# Altium schematic symbol library MAX7314AEGT.SchLib: 1 symbol
Pins are listed as number, name and electrical type; pins without a type are passive.

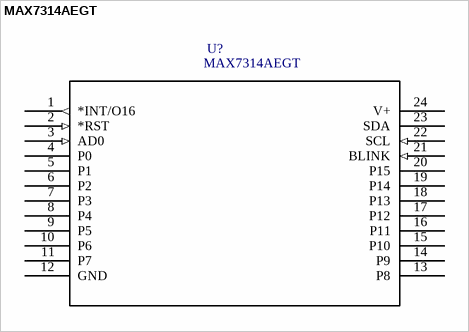
[diagram p0: symbol MAX7314AEGT]

## MAX7314AEGT
designator U?
Interface IC - I/O extensions Maxim Integrated MAX7314AEG%2B PWM I%C2%B2C 400 kHz QSOP 24; MP: MAX7314AEG+; Availability: Bad; Price: 2.82 USD; MF: Maxim Integrated; Package: QSOP-24 Maxim Integrated; Value: *
footprint 21-0055H_24
pins: 1 *INT/O16 (out), 2 *RST (in), 3 AD0 (in), 4 P0, 5 P1, 6 P2, 7 P3, 8 P4, 9 P5, 10 P6, 11 P7, 12 GND (power), 13 P8, 14 P9, 15 P10, 16 P11, 17 P12, 18 P13, 19 P14, 20 P15, 21 BLINK (in), 22 SCL (in), 23 SDA, 24 V+ (power)